# Altium schematic symbol library LT3042EMSE#PBF.SchLib: 1 symbol
Pins are listed as number, name and electrical type; pins without a type are passive.

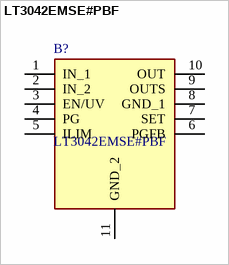
[diagram p0: symbol LT3042EMSE#PBF]

## LT3042EMSE#PBF
designator B?
LINEAR TECHNOLOGY - LT3042EMSE#PBF - LDO, ADJ, 0.2A, 0V-15V, MSOP-10; Manufacturer_Name: Analog Devices; Geometry.Height: 1.1mm; Mouser Part Number: 584-LT3042EMSE#PBF; Mouser Price/Stock: https://www.mouser.co.uk/ProductDetail/Analog-Devices/LT3042EMSEPBF?qs=oahfZPh6IAJ3XP16d20ITw%3D%3D; Manufacturer_Part_Number: LT3042EMSE#PBF; Datasheet Link: http://www.linear.com/docs/46159
footprint SOP50P490X110-11N
pins: 1 IN_1, 2 IN_2, 3 EN/UV, 4 PG, 5 ILIM, 6 PGFB, 7 SET, 8 GND_1, 9 OUTS, 10 OUT, 11 GND_2